# EAGLE library part 750310310 (library Wurth Electronics Midcom Inc V1-0)
Package Style: Speedy EP13 SMD 9.5W Mounting: SMD Pins: 10 pins Bobbin: 070-2381 Windings Primary: 13-59VDC, 200kHz Aux: 10VDC, 20mADC Secondary: 6.6VDC, 200mADC Secondary: 3.3VDC, 2.5ADC Best pinouts for production vary per application. Please contact Wurth Electronics Midcom, Inc. for assistance with your custom design. Datasheet: 750310310 <http://www.we-online.com/web/en/index.php/show/media/passive_components_-_custom_magnetics/pdf_doc_files/spec_sheets/7503/750310310.pdf> Website: Wurth Electronics Midcom <http://www.we-online.com/midcom> Contact us Wurth Electronics Midcom, Inc. 121 Airport Dr. Watertown, SD 57201 Phone: (605) 886-4385 Fax: (605) 886-4486 E-Mail: midcom@we-online.com
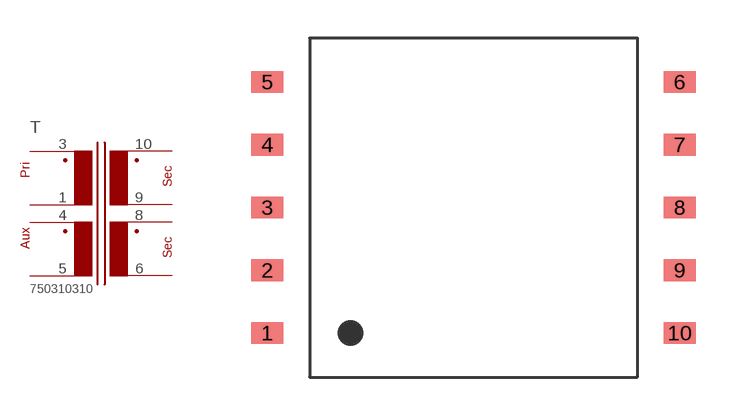
[diagram p54: symbol with the pads of 00SPEEDY_EP13_SMD_10PIN; footprint 00SPEEDY_EP13_SMD_10PIN]

Designator prefix T

## 750310310  [00SPEEDY_EP13_SMD_10PIN]
1  4  pas
3  5  pas
4  3  pas
5  2  pas
6  8  pas
8  9  pas
9  10  pas
10  1  pas

## Footprint 00SPEEDY_EP13_SMD_10PIN (pad centres in mm)
Package Style: Speedy EP13 Mounting: SMD Pins: 10 pins Bobbin: 070-2381
smd 1.27 x 0.864: 1 -8.179,-4.978; 2 -8.179,-2.489; 3 -8.179,0; 4 -8.179,2.489; 5 -8.179,4.978; 6 8.179,4.978; 7 8.179,2.489; 8 8.179,0; 9 8.179,-2.489; 10 8.179,-4.978